# Altium footprint library 电源开关.PcbLib: 3 footprints
Each footprint in its own frame and in the unit in brackets; x right, y up, seen from the top. Pads: shape width x height; smd on the part's side, far side on the other; paste and mask are expansions set on the pad; w line width, h text height; cw(c..) or ccw(c..) is an arc to the next point about the centre after c.
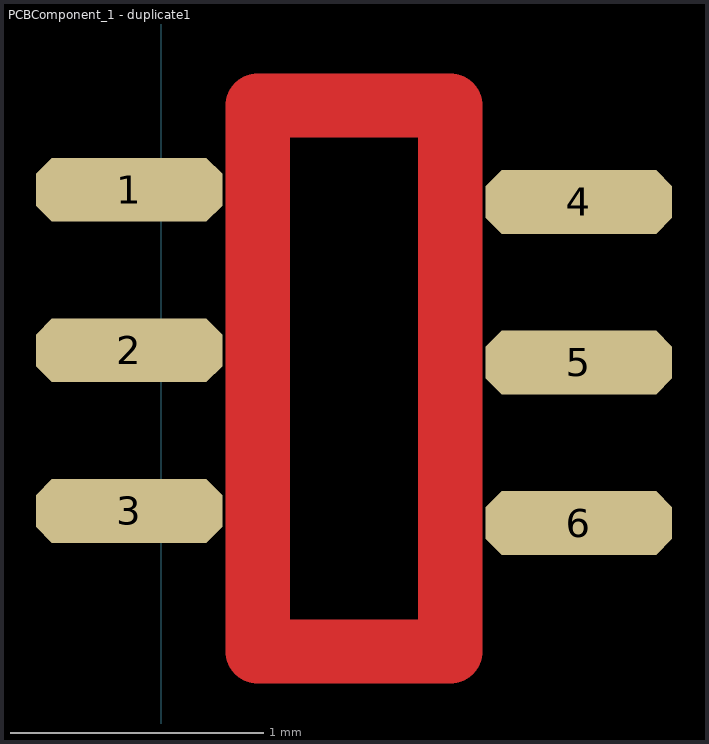
[diagram p0: the footprints below, top view; thin cyan lines are the x and y axes]

## PCBComponent_1 [mil]

## PCBComponent_1 - duplicate [mil]

## PCBComponent_1 - duplicate1 [mil]
pads (6):
  oct 29.05x9.92 smd: 1(-5,121.89) 2(-5,96.89) 3(-5,71.89) 4(65,120) 5(65,95) 6(65,70)
Top Layer:
  lines w10: 15,50 15,135 45,135 45,50 15,50